# EAGLE library part LM2675 (library ECE477_Tutorial)
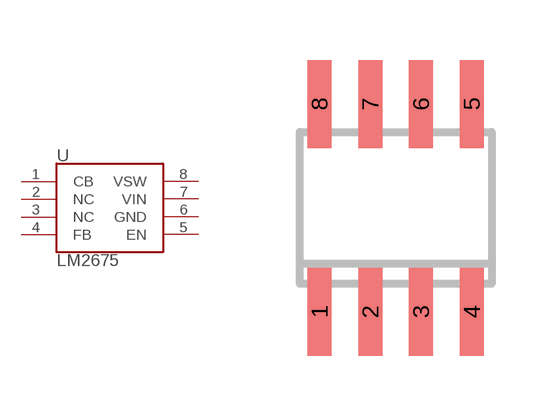
[diagram p0: symbol with the pads of SO8; footprint SO8]

Designator prefix -

## LM2675SOIC8  [SO8]
1  CB
2  NC
3  NC
4  FB
5  EN
6  GND
7  VIN
8  VSW

## Footprint SO8 (pad centres in mm)
SMALL OUTLINE INTEGRATED CIRCUIT
smd 0.6 x 2.2: 1 -1.905,-2.6; 2 -0.635,-2.6; 3 0.635,-2.6; 4 1.905,-2.6; 5 1.905,2.6; 6 0.635,2.6; 7 -0.635,2.6; 8 -1.905,2.6